# Altium footprint library Passive.PcbLib: 151 footprints (part 8 of 10)
Each footprint in its own frame and in the unit in brackets; x right, y up, seen from the top. Pads: shape width x height; smd on the part's side, far side on the other; paste and mask are expansions set on the pad; w line width, h text height; cw(c..) or ccw(c..) is an arc to the next point about the centre after c.
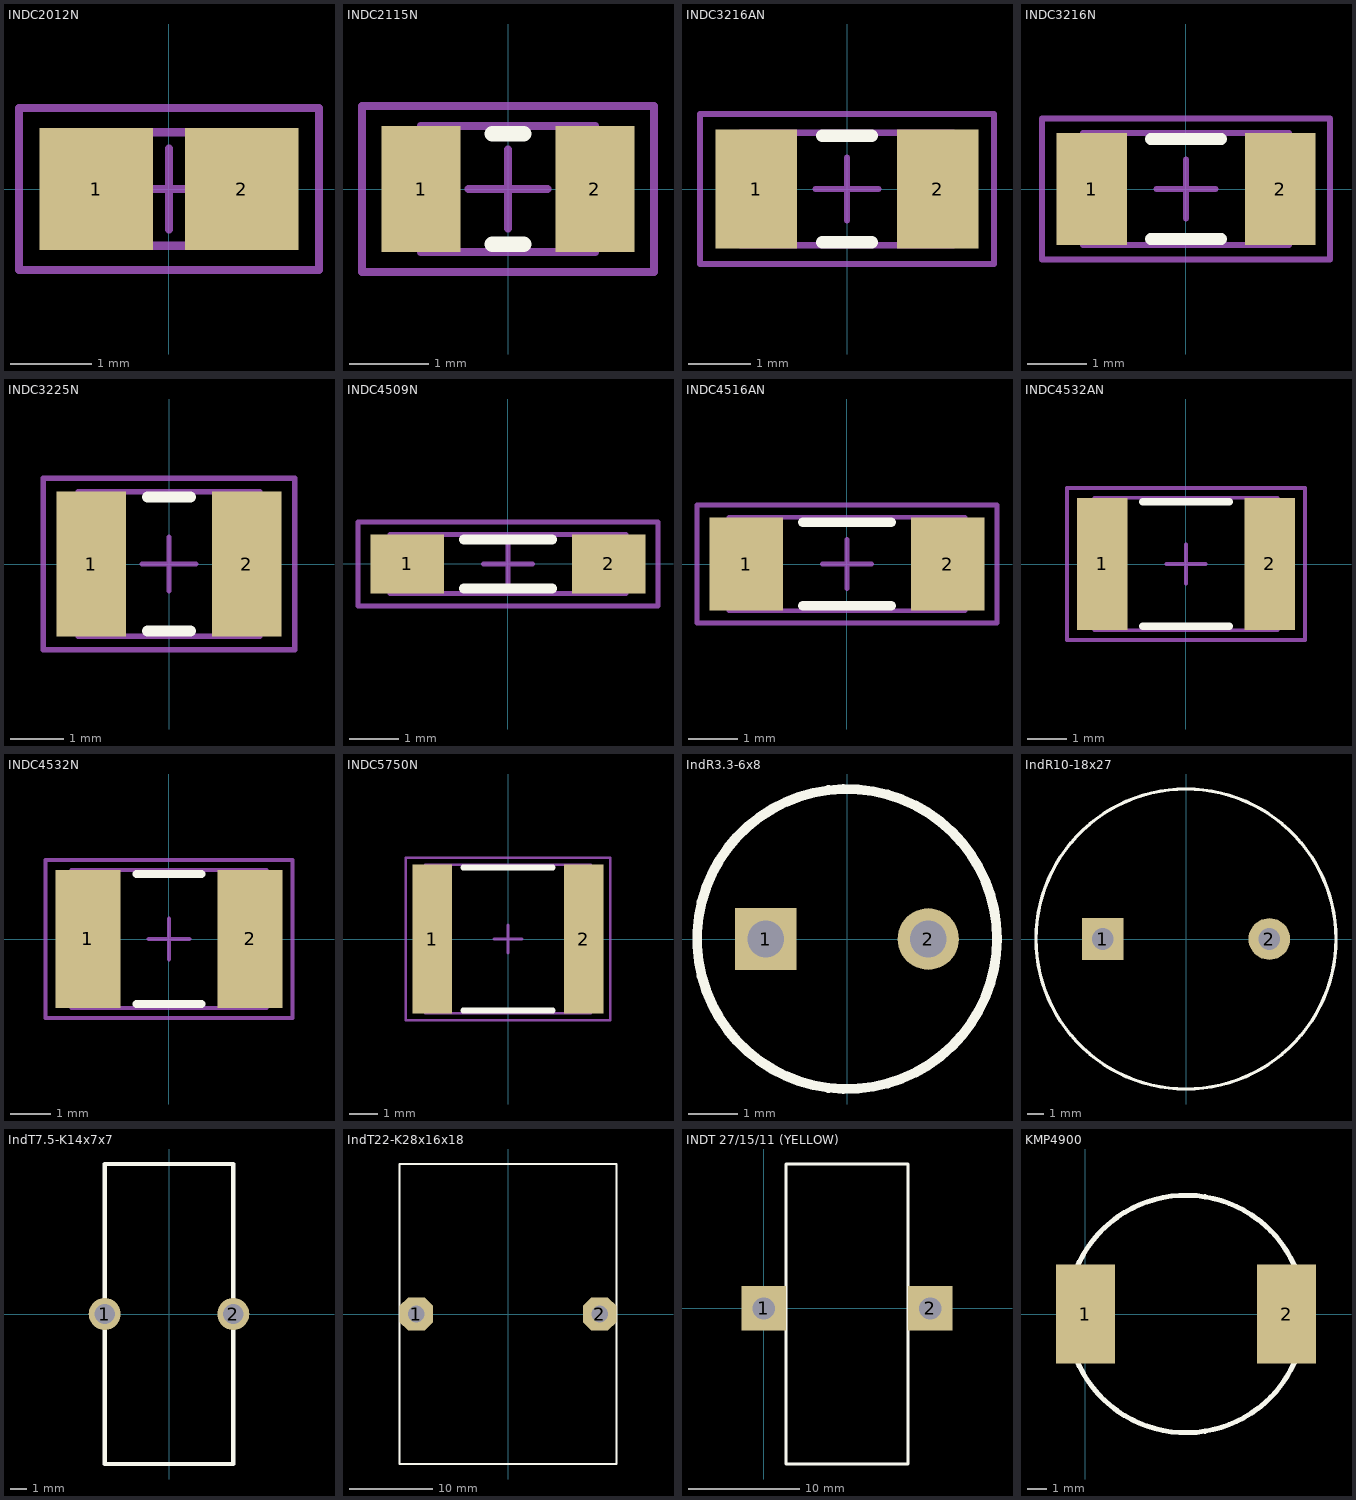
[diagram p7: the footprints below, top view; thin cyan lines are the x and y axes]

## INDC2012N [mm] "Chip Inductor, Body 2.0x1.2mm, IPC Medium Density"
height 1.1
pads (2):
  rect 1.4x1.5 smd: 1(-0.9,0) 2(0.9,0)
Mechanical 13:
  lines w0.1: -1.1,-0.7 -1.1,0.7 1.1,0.7 1.1,-0.7 -1.1,-0.7
Mechanical 15:
  lines w0.1: -0.5,0 0.5,0 ; 0,-0.5 0,0.5 ; -1.85,-1 -1.85,1 1.85,1 1.85,-1 -1.85,-1
3D body: height 1.1, standoff 0, extent -1.1,-0.7 1.1,0.7

## INDC2115N [mm] "Chip Inductor, Body 2.1x1.5mm, IPC Medium Density"
height 1.04
pads (2):
  rect 1x1.6 smd: 1(-1.1,0) 2(1.1,0)
Top Overlay:
  lines w0.2: -0.2,-0.7 0.2,-0.7 ; -0.2,0.7 0.2,0.7
Mechanical 13:
  lines w0.1: -1.105,-0.8 1.105,-0.8 1.105,0.8 -1.105,0.8 -1.105,-0.8
Mechanical 15:
  lines w0.1: -0.5,0 0.5,0 ; 0,-0.5 0,0.5 ; -1.85,-1.05 1.85,-1.05 1.85,1.05 -1.85,1.05 -1.85,-1.05
3D body: height 1.04, standoff 0, extent -1.105,-0.8 1.105,0.8

## INDC3216AN [mm] "Chip Inductor, Body 3.2x1.6mm, IPC Medium Density"
height 1.3
pads (2):
  rect 1.3x1.9 smd: 1(-1.45,0) 2(1.45,0)
Top Overlay:
  lines w0.2: -0.4,-0.85 0.4,-0.85 ; -0.4,0.85 0.4,0.85
Mechanical 13:
  lines w0.1: -1.7,-0.9 1.7,-0.9 1.7,0.9 -1.7,0.9 -1.7,-0.9
Mechanical 15:
  lines w0.1: -0.5,0 0.5,0 ; 0,-0.5 0,0.5 ; -2.35,-1.2 2.35,-1.2 2.35,1.2 -2.35,1.2 -2.35,-1.2
3D body: height 1.3, standoff 0, extent -1.7,-0.9 1.7,0.9

## INDC3216N [mm] "Chip Inductor, Body 3.2x1.6mm, IPC Medium Density"
height 1.9
pads (2):
  rect 1.2x1.9 smd: 1(-1.6,0) 2(1.6,0)
Top Overlay:
  lines w0.2: -0.6,-0.85 0.6,-0.85 ; -0.6,0.85 0.6,0.85
Mechanical 13:
  lines w0.1: -1.75,-0.95 -1.75,0.95 1.75,0.95 1.75,-0.95 -1.75,-0.95
Mechanical 15:
  lines w0.1: -0.5,0 0.5,0 ; 0,-0.5 0,0.5 ; -2.45,-1.2 -2.45,1.2 2.45,1.2 2.45,-1.2 -2.45,-1.2
3D body: height 1.9, standoff 0, extent -1.75,-0.95 1.75,0.95

## INDC3225N [mm] "Chip Inductor, Body 3.2x2.5mm, IPC Medium Density"
height 1.5
pads (2):
  rect 1.3x2.7 smd: 1(-1.45,0) 2(1.45,0)
Top Overlay:
  lines w0.2: -0.4,-1.25 0.4,-1.25 ; -0.4,1.25 0.4,1.25
Mechanical 13:
  lines w0.1: -1.7,-1.35 1.7,-1.35 1.7,1.35 -1.7,1.35 -1.7,-1.35
Mechanical 15:
  lines w0.1: -0.5,0 0.5,0 ; 0,-0.5 0,0.5 ; -2.35,-1.6 2.35,-1.6 2.35,1.6 -2.35,1.6 -2.35,-1.6
3D body: height 1.5, standoff 0, extent -1.7,-1.35 1.7,1.35

## INDC4509N [mm] "Chip Inductor, Body 4.5x0.9mm, IPC Medium Density"
height 1.9
pads (2):
  rect 1.5x1.2 smd: 1(-2.05,0) 2(2.05,0)
Top Overlay:
  lines w0.2: -0.9,-0.5 0.9,-0.5 ; -0.9,0.5 0.9,0.5
Mechanical 13:
  lines w0.1: -2.4,-0.6 2.4,-0.6 2.4,0.6 -2.4,0.6 -2.4,-0.6
Mechanical 15:
  lines w0.1: -0.5,0 0.5,0 ; 0,-0.5 0,0.5 ; -3.05,-0.85 3.05,-0.85 3.05,0.85 -3.05,0.85 -3.05,-0.85
3D body: height 1.9, standoff 0, extent -2.4,-0.6 2.4,0.6

## INDC4516AN [mm] "Chip Inductor, Body 4.5x1.6mm, IPC Medium Density"
height 1.8
pads (2):
  rect 1.5x1.9 smd: 1(-2.05,0) 2(2.05,0)
Top Overlay:
  lines w0.2: -0.9,-0.85 0.9,-0.85 ; -0.9,0.85 0.9,0.85
Mechanical 13:
  lines w0.1: -2.4,-0.95 2.4,-0.95 2.4,0.95 -2.4,0.95 -2.4,-0.95
Mechanical 15:
  lines w0.1: -0.5,0 0.5,0 ; 0,-0.5 0,0.5 ; -3.05,-1.2 3.05,-1.2 3.05,1.2 -3.05,1.2 -3.05,-1.2
3D body: height 1.8, standoff 0, extent -2.4,-0.95 2.4,0.95

## INDC4532AN [mm] "Chip Inductor, Body 4.5x3.2mm, IPC Medium Density"
height 1.7
pads (2):
  rect 1.3x3.4 smd: 1(-2.15,0) 2(2.15,0)
Top Overlay:
  lines w0.2: -1.1,-1.6 1.1,-1.6 ; -1.1,1.6 1.1,1.6
Mechanical 13:
  lines w0.1: -2.35,-1.7 2.35,-1.7 2.35,1.7 -2.35,1.7 -2.35,-1.7
Mechanical 15:
  lines w0.1: -0.5,0 0.5,0 ; 0,-0.5 0,0.5 ; -3.05,-1.95 3.05,-1.95 3.05,1.95 -3.05,1.95 -3.05,-1.95
3D body: height 1.7, standoff 0, extent -2.35,-1.7 2.35,1.7

## INDC4532N [mm] "Chip Inductor, Body 4.5x3.2mm, IPC Medium Density"
height 1.35
pads (2):
  rect 1.6x3.4 smd: 1(-2,0) 2(2,0)
Top Overlay:
  lines w0.2: -0.8,-1.6 0.8,-1.6 ; -0.8,1.6 0.8,1.6
Mechanical 13:
  lines w0.1: -2.4,-1.7 2.4,-1.7 2.4,1.7 -2.4,1.7 -2.4,-1.7
Mechanical 15:
  lines w0.1: -0.5,0 0.5,0 ; 0,-0.5 0,0.5 ; -3.05,-1.95 3.05,-1.95 3.05,1.95 -3.05,1.95 -3.05,-1.95
3D body: height 1.35, standoff 0, extent -2.4,-1.7 2.4,1.7

## INDC5750N [mm] "Chip Inductor, Body 5.7x5.0mm, IPC Medium Density"
height 1.9
pads (2):
  rect 1.4x5.3 smd: 1(-2.7,0) 2(2.7,0)
Top Overlay:
  lines w0.2: -1.6,-2.55 1.6,-2.55 ; -1.6,2.55 1.6,2.55
Mechanical 13:
  lines w0.1: -2.95,-2.65 -2.95,2.65 2.95,2.65 2.95,-2.65 -2.95,-2.65
Mechanical 15:
  lines w0.1: -0.5,0 0.5,0 ; 0,-0.5 0,0.5 ; -3.65,-2.9 -3.65,2.9 3.65,2.9 3.65,-2.9 -3.65,-2.9
3D body: height 1.9, standoff 0, extent -2.95,-2.65 2.95,2.65

## IndR3.3-6x8 [mm] "Inductor, Radial; Body 6.0 x 8 mm (Dia.xH typ); Pin Spacing 3.3 mm (typ)"
height 10
pads (2):
  rect 1.25x1.25 hole 0.75: 1(-1.651,0)
  round 1.25 hole 0.75: 2(1.651,0)
Top Overlay:
  circle w0.2: c0,0 r3.048
3D body: height 8, standoff 0, extent -2.921,-2.994 3.055,2.994

## IndR10-18x27 [mm] "Inductor, Radial; Body 18 x 27 mm (Dia.xH typ); Pin Spacing 10 mm (typ)"
height 26.5
pads (2):
  rect 2.5x2.5 hole 1.3: 1(-5,0)
  round 2.5 hole 1.3: 2(5,0)
Top Overlay:
  circle w0.2: c0,0 r9
3D body: height 27, standoff 0, extent -8.912,-8.982 9.017,8.982

## IndT7.5-K14x7x7 [mm] "Inductor, Toroidal; Body 15x9x15 mm (AxBxH); Pin Spacing 7.5 mm (typ)"
height 16
pads (2):
  round 1.9 hole 1.2: 1(-3.81,0) 2(3.81,0)
Top Overlay:
  lines w0.254: -3.81,-8.89 3.81,-8.89 3.81,8.89 -3.81,8.89 -3.81,-8.89
3D body: height 15.98, standoff 0.02, extent -3.81,-7.968 3.81,7.968

## IndT22-K28x16x18 [mm] "Inductor, Toroidal; Body 34x25x34 mm (AxBxH); Pin Spacing 22 mm (typ)"
height 35
pads (2):
  oct 4x4 hole 2: 1(-11,0) 2(11,0)
Top Overlay:
  lines w0.254: -13,-18 13,-18 13,18 -13,18 -13,-18
3D body: height 33.97, standoff 0.03, extent -12.522,-17.162 12.478,16.704

## INDT 27/15/11 (YELLOW) [mm]
height 27
pads (2):
  rect 4x4 hole 2: 1(0,0) 2(15,0)
Top Overlay:
  lines w0.254: 2,-14 13,-14 13,0 13,13 2,13 2,-14

## KMP4900 [mm] "12.2x12.2x8.0 (XxYxZ)"
height 8
pads (2):
  rect 3x5 smd: 1(0,0) 2(10.16,0)
Top Overlay:
  circle w0.254: c5.08,0 r6
3D body: height 8, standoff 0, extent -1.02,-6.096 11.18,6.104